# Altium footprint library heed.PcbLib: 20 footprints (part 2 of 2)
Each footprint in its own frame and in the unit in brackets; x right, y up, seen from the top. Pads: shape width x height; smd on the part's side, far side on the other; paste and mask are expansions set on the pad; w line width, h text height; cw(c..) or ccw(c..) is an arc to the next point about the centre after c.
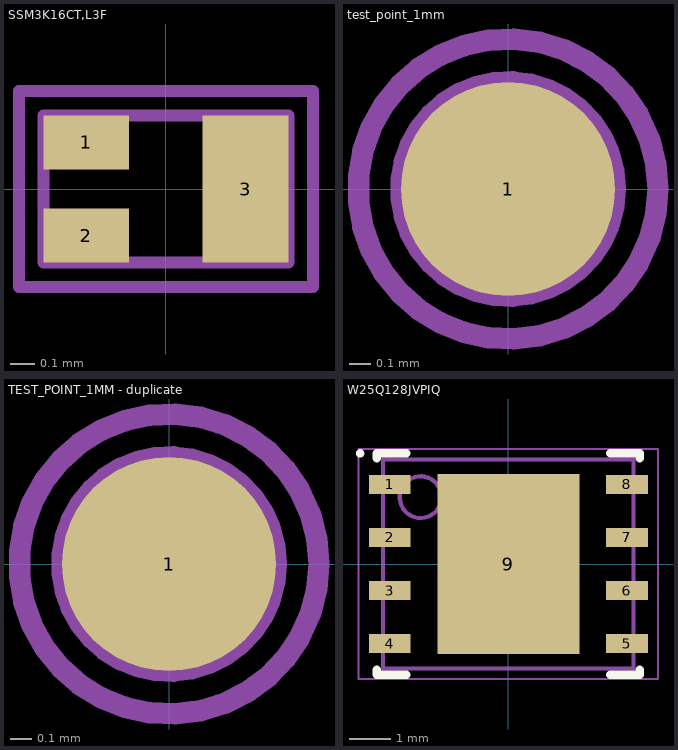
[diagram p1: the footprints below, top view; thin cyan lines are the x and y axes]

## SSM3K16CT,L3F [mm]
pads (3):
  rect 0.35x0.22 smd: 1(-0.325,0.19) 2(-0.325,-0.19)
  rect 0.35x0.6 smd: 3(0.325,0)
Mechanical 13:
  lines w0.05: -0.5,-0.3 0.5,-0.3 0.5,0.3 -0.5,0.3 -0.5,-0.3
Mechanical 15:
  lines w0.05: -0.6,-0.4 -0.6,0.4 0.6,0.4 0.6,-0.4 -0.6,-0.4
3D body: height 0.35, standoff 0, extent -0.5,-0.3 0.5,0.3

## test_point_1mm [mm]
pads (1):
  round 1 smd paste-1: 1(0,0)
Mechanical 13:
  circle w0.1: c0,0 r0.5
Mechanical 15:
  circle w0.1: c0,0 r0.7

## TEST_POINT_1MM - duplicate [mm]
pads (1):
  round 1 smd paste-1: 1(0,0)
Mechanical 13:
  circle w0.1: c0,0 r0.5
Mechanical 15:
  circle w0.1: c0,0 r0.7

## W25Q128JVPIQ [mm] "SON, 8-Leads, Body 5.00x6.00mm, Pitch 1.27mm, Thermal Pad 4.30x3.40mm, IPC Medium Density"
height 0.8
pads (9):
  rect 1x0.45 smd: 1(-2.84,1.905) 2(-2.84,0.635) 3(-2.84,-0.635) 4(-2.84,-1.905) 5(2.84,-1.905) 6(2.84,-0.635) 7(2.84,0.635) 8(2.84,1.905)
  rect 3.4x4.3 smd paste-1.7: 9(0,0)
Top Overlay:
  circle w0.1: c-3.55,2.65 r0.05
  lines w0.2: -3.15,-2.53 -3.15,-2.65 -2.44,-2.65 ; -3.15,2.53 -3.15,2.65 -2.44,2.65 ; 2.44,-2.65 3.15,-2.65 3.15,-2.53 ; 2.44,2.65 3.15,2.65 3.15,2.53
Top Paste:
  rectangle: 0.665,-2.045 1.595,-0.815
  rectangle: 0.665,-0.615 1.595,0.615
  rectangle: 0.665,0.815 1.595,2.045
  rectangle: -0.465,-2.045 0.465,-0.815
  rectangle: -0.465,-0.615 0.465,0.615
  rectangle: -0.465,0.815 0.465,2.045
  rectangle: -1.595,-2.045 -0.665,-0.815
  rectangle: -1.595,-0.615 -0.665,0.615
  rectangle: -1.595,0.815 -0.665,2.045
Mechanical 13:
  circle w0.1: c-2.1,1.6 r0.5
  lines w0.1: -3,-2.5 3,-2.5 3,2.5 -3,2.5 -3,-2.5
Mechanical 15:
  lines w0.05: -3.585,-2.75 3.585,-2.75 3.585,2.75 -3.585,2.75 -3.585,-2.75
  lines w0.1: -0.5,0 0.5,0 ; 0,-0.5 0,0.5
3D body "SON127P600X80_HS-9N.step": height 0.8, standoff 0, extent -3.001,-2.5 3.001,2.5